# EAGLE library part ZYNQ (library sjg-qmtech)
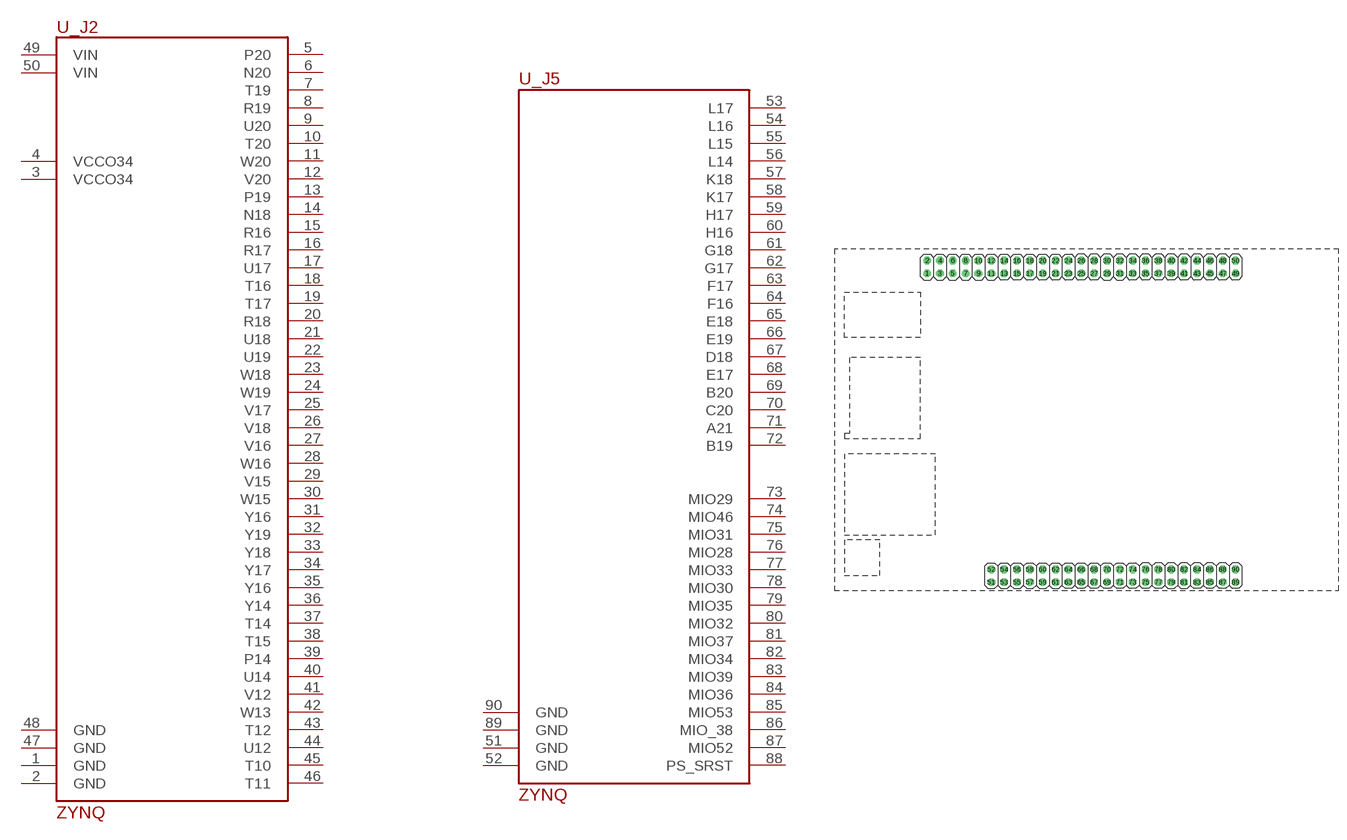
[diagram p0: symbol with the pads of ZYNQ; footprint ZYNQ]

Designator prefix -; gates _J2=ZYNQ_J2 _J5=ZYNQ_J5

## ZYNQ  [ZYNQ]
1  _J2:GND
2  _J2:GND
3  _J2:VCCO34
4  _J2:VCCO34
5  _J2:P20
6  _J2:N20
7  _J2:T19
8  _J2:R19
9  _J2:U20
10  _J2:T20
11  _J2:W20
12  _J2:V20
13  _J2:P19
14  _J2:N18
15  _J2:R16
16  _J2:R17
17  _J2:U17
18  _J2:T16
19  _J2:T17
20  _J2:R18
21  _J2:U18
22  _J2:U19
23  _J2:W18
24  _J2:W19
25  _J2:V17
26  _J2:V18
27  _J2:V16
28  _J2:W16
29  _J2:V15
30  _J2:W15
31  _J2:Y16
32  _J2:Y19
33  _J2:Y18
34  _J2:Y17
35  _J2:Y16
36  _J2:Y14
37  _J2:T14
38  _J2:T15
39  _J2:P14
40  _J2:U14
41  _J2:V12
42  _J2:W13
43  _J2:T12
44  _J2:U12
45  _J2:T10
46  _J2:T11
47  _J2:GND
48  _J2:GND
49  _J2:VIN
50  _J2:VIN
51  _J5:GND
52  _J5:GND
53  _J5:L17
54  _J5:L16
55  _J5:L15
56  _J5:L14
57  _J5:K18
58  _J5:K17
59  _J5:H17
60  _J5:H16
61  _J5:G18
62  _J5:G17
63  _J5:F17
64  _J5:F16
65  _J5:E18
66  _J5:E19
67  _J5:D18
68  _J5:E17
69  _J5:B20
70  _J5:C20
71  _J5:A21
72  _J5:B19
73  _J5:MIO29
74  _J5:MIO46
75  _J5:MIO31
76  _J5:MIO28
77  _J5:MIO33
78  _J5:MIO30
79  _J5:MIO35
80  _J5:MIO32
81  _J5:MIO37
82  _J5:MIO34
83  _J5:MIO39
84  _J5:MIO36
85  _J5:MIO53
86  _J5:MIO_38
87  _J5:MIO52
88  _J5:PS_SRST
89  _J5:GND
90  _J5:GND

## Footprint ZYNQ (pad centres in mm)
PIN HEADER
drill 1.016 octagon: 1 18.321,62.653; 2 18.321,65.193; 3 20.861,62.653; 4 20.861,65.193; 5 23.401,62.653; 6 23.401,65.193; 7 25.941,62.653; 8 25.941,65.193; 9 28.481,62.653; 10 28.481,65.193; 11 31.021,62.653; 12 31.021,65.193; 13 33.561,62.653; 14 33.561,65.193; 15 36.101,62.653; 16 36.101,65.193; 17 38.641,62.653; 18 38.641,65.193; 19 41.181,62.653; 20 41.181,65.193; 21 43.721,62.653; 22 43.721,65.193; 23 46.261,62.653; 24 46.261,65.193; 25 48.801,62.653; 26 48.801,65.193; 27 51.341,62.653; 28 51.341,65.193; 29 53.881,62.653; 30 53.881,65.193; 31 56.421,62.653; 32 56.421,65.193; 33 58.961,62.653; 34 58.961,65.193; 35 61.501,62.653; 36 61.501,65.193; 37 64.041,62.653; 38 64.041,65.193; 39 66.581,62.653; 40 66.581,65.193; 41 69.121,62.653; 42 69.121,65.193; 43 71.661,62.653; 44 71.661,65.193; 45 74.201,62.653; 46 74.201,65.193; 47 76.741,62.653; 48 76.741,65.193; 49 79.281,62.653; 50 79.281,65.193; 51 31.017,1.639; 52 31.017,4.179; 53 33.557,1.639; 54 33.557,4.179; 55 36.097,1.639; 56 36.097,4.179; 57 38.637,1.639; 58 38.637,4.179; 59 41.177,1.639; 60 41.177,4.179; 61 43.717,1.639; 62 43.717,4.179; 63 46.257,1.639; 64 46.257,4.179; 65 48.797,1.639; 66 48.797,4.179; 67 51.337,1.639; 68 51.337,4.179; 69 53.877,1.639; 70 53.877,4.179; 71 56.417,1.639; 72 56.417,4.179; 73 58.957,1.639; 74 58.957,4.179; 75 61.497,1.639; 76 61.497,4.179; 77 64.037,1.639; 78 64.037,4.179; 79 66.577,1.639; 80 66.577,4.179; 81 69.117,1.639; 82 69.117,4.179; 83 71.657,1.639; 84 71.657,4.179; 85 74.197,1.639; 86 74.197,4.179; 87 76.737,1.639; 88 76.737,4.179; 89 79.277,1.639; 90 79.277,4.179